# EAGLE library part MOLEX_SL_12 (library molex-sl-connectors_jw)
Molex SL-Series PCB Header, 12-Pos, 0.1" (2.54mm) Centers
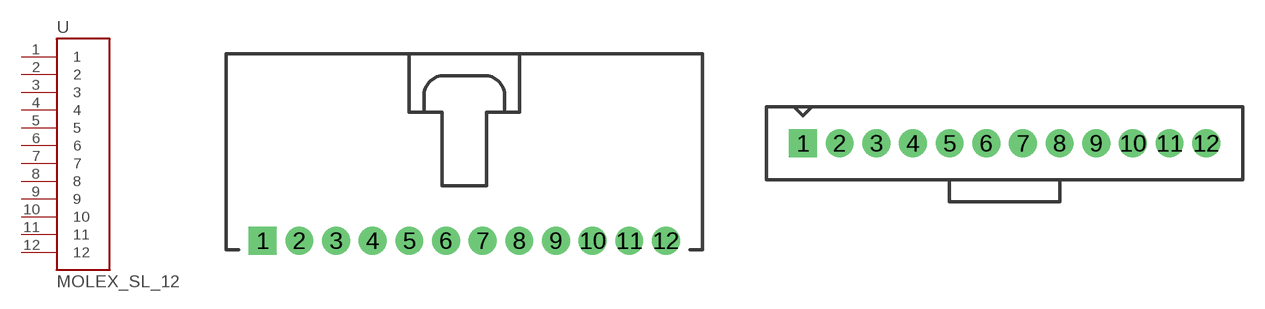
[diagram p6: symbol with the pads of SL_70553_12; footprints SL_70553_12, SL_70543_12]

Designator prefix -

## MOLEX_SL_12-70553  [SL_70553_12]
1  1
2  2
3  3
4  4
5  5
6  6
7  7
8  8
9  9
10  10
11  11
12  12

## MOLEX_SL_12-70543-74095  [SL_70543_12]
Pads as for SL_70553_12

## MOLEX_SL_12-70541-70545  [SL_70541_12]
Pads as for SL_70553_12

## MOLEX_SL_12-70551  [SL_70551_12]
Pads as for SL_70553_12

## MOLEX_SL_12-70555  [SL_70555_12]
Pads as for SL_70553_12

## MOLEX_SL_12-70634  [SL_70634_12]
Pads as for SL_70553_12

## MOLEX_SL_12-74099  [SL_74099_12]
Pads as for SL_70553_12

## MOLEX_SL_12-87898  [SL_87898_12]
Pads as for SL_70553_12

## Footprint SL_70553_12 (pad centres in mm)
Right-Angle Header w/ Latch (no pegs) 70553-0011 70553-0046 70553-0116 70553-0151
drill 1.1 pad 1.93 square: 1 -13.97,-5.08
drill 1.1 pad 1.93: 2 -11.43,-5.08; 3 -8.89,-5.08; 4 -6.35,-5.08; 5 -3.81,-5.08; 6 -1.27,-5.08; 7 1.27,-5.08; 8 3.81,-5.08; 9 6.35,-5.08; 10 8.89,-5.08; 11 11.43,-5.08; 12 13.97,-5.08

## Footprint SL_70543_12 (pad centres in mm)
Vertical Header w/ Latch & Optional Compliant Pins (no pegs) Normal Pins: 70543-0011 70543-0046 70543-0081 70543-0116 70543-0151 70543-0175 70543-0210 70543-0258 70543-0282 70543-0306 Compliant Pins 74095-0012 74095-0042 74095-0072 74095-1042 74095-1072
drill 1.1 pad 1.93 square: 1 -13.97,1.27
drill 1.1 pad 1.93: 2 -11.43,1.27; 3 -8.89,1.27; 4 -6.35,1.27; 5 -3.81,1.27; 6 -1.27,1.27; 7 1.27,1.27; 8 3.81,1.27; 9 6.35,1.27; 10 8.89,1.27; 11 11.43,1.27; 12 13.97,1.27

## Footprint SL_70541_12 (pad centres in mm)
Vertical Header w/ Latch & Pegs With Split Pegs: 70541-0011 70541-0046 70541-0081 With Tri-Pegs: 70545-0011 70545-0046 70545-0081
drill 1.1 pad 1.93 square: 1 -13.97,1.27
drill 1.1 pad 1.93: 2 -11.43,1.27; 3 -8.89,1.27; 4 -6.35,1.27; 5 -3.81,1.27; 6 -1.27,1.27; 7 1.27,1.27; 8 3.81,1.27; 9 6.35,1.27; 10 8.89,1.27; 11 11.43,1.27; 12 13.97,1.27
hole 3.404 at -18.034,0.508
hole 3.404 at 18.034,0.508

## Footprint SL_70551_12 (pad centres in mm)
Right-Angle Header w/ Latch & Split Pegs 70551-0011 70551-0046 70551-0081
drill 1.1 pad 1.93 square: 1 -13.97,-5.08
drill 1.1 pad 1.93: 2 -11.43,-5.08; 3 -8.89,-5.08; 4 -6.35,-5.08; 5 -3.81,-5.08; 6 -1.27,-5.08; 7 1.27,-5.08; 8 3.81,-5.08; 9 6.35,-5.08; 10 8.89,-5.08; 11 11.43,-5.08; 12 13.97,-5.08
hole 3.404 at -15.24,3.556
hole 3.404 at 15.24,3.556

## Footprint SL_70555_12 (pad centres in mm)
Right-Angle Header w/ Latch & Tri-Pegs 70555-0011 70555-0046 70555-0081 70555-5011
drill 1.1 pad 1.93 square: 1 -13.97,-5.08
drill 1.1 pad 1.93: 2 -11.43,-5.08; 3 -8.89,-5.08; 4 -6.35,-5.08; 5 -3.81,-5.08; 6 -1.27,-5.08; 7 1.27,-5.08; 8 3.81,-5.08; 9 6.35,-5.08; 10 8.89,-5.08; 11 11.43,-5.08; 12 13.97,-5.08
hole 3.404 at -15.367,3.556
hole 3.404 at 15.367,3.556

## Footprint SL_70634_12 (pad centres in mm)
SMD Right-Angle Header w/ Latch & PCB Pegs 70634-0011 70634-0046 70634-0081 70634-0116 70634-0151 70634-0186 70634-0212
smd 1.651 x 5.334: 1 -13.97,-7.62; 2 -11.43,-7.62; 3 -8.89,-7.62; 4 -6.35,-7.62; 5 -3.81,-7.62; 6 -1.27,-7.62; 7 1.27,-7.62; 8 3.81,-7.62; 9 6.35,-7.62; 10 8.89,-7.62; 11 11.43,-7.62; 12 13.97,-7.62
hole 3.404 at -15.392,3.048
hole 3.404 at 15.367,3.099

## Footprint SL_74099_12 (pad centres in mm)
SMD Vertical Header w/ Latch & PCB Pegs Package also includes Pick-N-Place Cap 74099-0612 74099-0632 74099-0652
smd 1.27 x 3.175: 1 -13.97,-2.108; 2 -11.43,2.108; 3 -8.89,-2.108; 4 -6.35,2.108; 5 -3.81,-2.108; 6 -1.27,2.108; 7 1.27,-2.108; 8 3.81,2.108; 9 6.35,-2.108; 10 8.89,2.108; 11 11.43,-2.108; 12 13.97,2.108

## Footprint SL_87898_12 (pad centres in mm)
SMD Vertical Header (no latch or pegs) Package also includes Pick-N-Place Cap Tube packaging w/o Pick-N-Place Cap: 87898-1221 87898-1222 87898-1224 87898-1225 87898-1226 Tube packaging w/ Pick-N-Place Cap: 87898-1231 87898-1232 87898-1234 87898-1235 87898-1236 Tape & Reel packaging w/ Pick-N-Place Cap: 87898-1251 87898-1252 87898-1254 87898-1255 87898-1256
smd 1.27 x 2.946: 1 -13.97,1.803; 2 -11.43,-1.803; 3 -8.89,1.803; 4 -6.35,-1.803; 5 -3.81,1.803; 6 -1.27,-1.803; 7 1.27,1.803; 8 3.81,-1.803; 9 6.35,1.803; 10 8.89,-1.803; 11 11.43,1.803; 12 13.97,-1.803